# EAGLE library part USB-REV (library Explore Labs EAGLE Library)
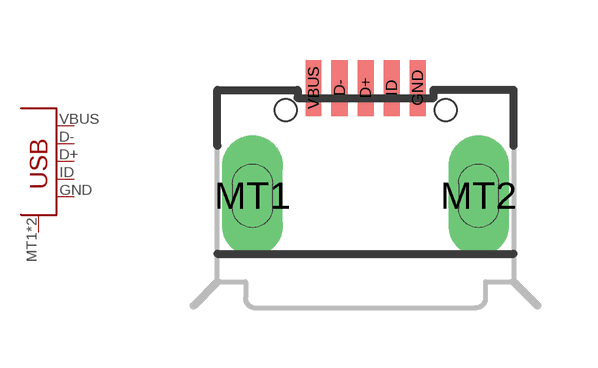
[diagram p28: symbol with the pads of USB-MICROB-GCT-3080; footprint USB-MICROB-GCT-3080]

Designator prefix -

## USB-REVMICROB  [USB-MICROB-GCT-3080]
D+  D+
D-  D-
GND  GND
ID  ID
MT1  SHIELD
MT2  SHIELD
VBUS  VBUS

## Footprint USB-MICROB-GCT-3080 (pad centres in mm)
smd 0.4 x 1.4: D+ 0,2.7; D- -0.65,2.7; GND 1.3,2.7; ID 0.65,2.7; VBUS -1.3,2.7
drill 1 pad 1.35 long: MT1 -2.825,0; MT2 2.825,0
hole 0.55 at -2,2.15
hole 0.55 at 2,2.15